# Altium footprint library PcbLib4.PcbLib: 3 footprints
Each footprint in its own frame and in the unit in brackets; x right, y up, seen from the top. Pads: shape width x height; smd on the part's side, far side on the other; paste and mask are expansions set on the pad; w line width, h text height; cw(c..) or ccw(c..) is an arc to the next point about the centre after c.
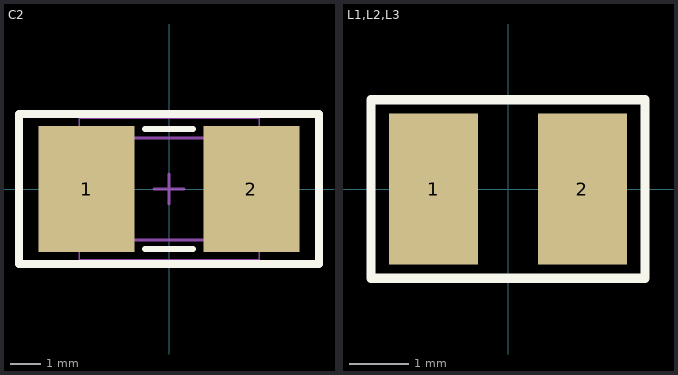
[diagram p0: the footprints below, top view; thin cyan lines are the x and y axes]

## C1,C3 [mm]

## C2 [mm]
height 2.7
pads (2):
  rect 3.2x4.2 smd: 1(-2.75,0) 2(2.75,0)
Top Overlay:
  lines w0.2: -0.8,-2 0.8,-2 ; -0.8,2 0.8,2
  lines w0.254: -5,-2.5 5,-2.5 5,2.5 -0.5,2.5 -5,2.5 -5,-2.5
Mechanical 13:
  lines w0.1: -2.4,-1.7 -2.4,1.7 2.4,1.7 2.4,-1.7 -2.4,-1.7
Mechanical 15:
  lines w0.05: -3,-2.35 -3,2.35 3,2.35 3,-2.35 -3,-2.35
  lines w0.1: -0.5,0 0.5,0 ; 0,-0.5 0,0.5
3D body: height 2.7, standoff 0, extent -1.82,-1.7 1.82,1.7
3D body: height 2.7, standoff 0, extent -2.4,-1.7 -1.82,1.7
3D body: height 2.7, standoff 0, extent 1.82,-1.7 2.4,1.7

## L1,L2,L3 [mm]
pads (2):
  rect 1.5x2.54 smd: 1(-1.25,0) 2(1.25,0)
Top Overlay:
  lines w0.154: -2.3,-1.5 2.3,-1.5 2.3,1.5 -2.3,1.5 -2.3,-1.5